# EAGLE library part HT16K33 (library lio)
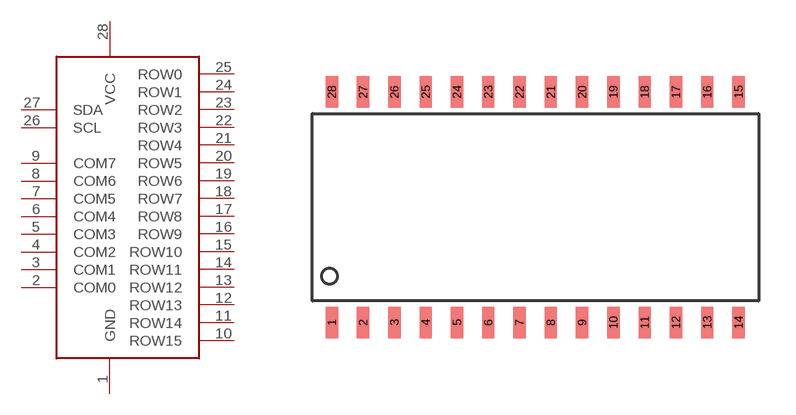
[diagram p6: symbol with the pads of SOP28; footprint SOP28]

Designator prefix -

## HT16K33  [SOP28]
1  GND  pwr
2  COM0  out
3  COM1  out
4  COM2  out
5  COM3  out
6  COM4  out
7  COM5  out
8  COM6  out
9  COM7  out
10  ROW15
11  ROW14
12  ROW13
13  ROW12
14  ROW11
15  ROW10
16  ROW9
17  ROW8
18  ROW7
19  ROW6
20  ROW5
21  ROW4
22  ROW3
23  ROW2
24  ROW1
25  ROW0
26  SCL  in
27  SDA
28  VCC  pwr

## Footprint SOP28 (pad centres in mm)
smd 0.5 x 1.27: 1 0,-4.685; 2 1.27,-4.685; 3 2.54,-4.685; 4 3.81,-4.685; 5 5.08,-4.685; 6 6.35,-4.685; 7 7.62,-4.685; 8 8.89,-4.685; 9 10.16,-4.685; 10 11.43,-4.685; 11 12.7,-4.685; 12 13.97,-4.685; 13 15.24,-4.685; 14 16.51,-4.685; 15 16.51,4.685; 16 15.24,4.685; 17 13.97,4.685; 18 12.7,4.685; 19 11.43,4.685; 20 10.16,4.685; 21 8.89,4.685; 22 7.62,4.685; 23 6.35,4.685; 24 5.08,4.685; 25 3.81,4.685; 26 2.54,4.685; 27 1.27,4.685; 28 0,4.685